# Altium schematic symbol library BUZ-STD.SchLib: 1 symbol
Pins are listed as number, name and electrical type; pins without a type are passive.

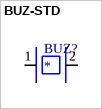
[diagram p0: symbol BUZ-STD]

## BUZ-STD
designator BUZ?
pins: 1, 2